# Altium footprint library lianchen_lib.PcbLib: 233 footprints (part 13 of 15)
Each footprint in its own frame and in the unit in brackets; x right, y up, seen from the top. Pads: shape width x height; smd on the part's side, far side on the other; paste and mask are expansions set on the pad; w line width, h text height; cw(c..) or ccw(c..) is an arc to the next point about the centre after c.
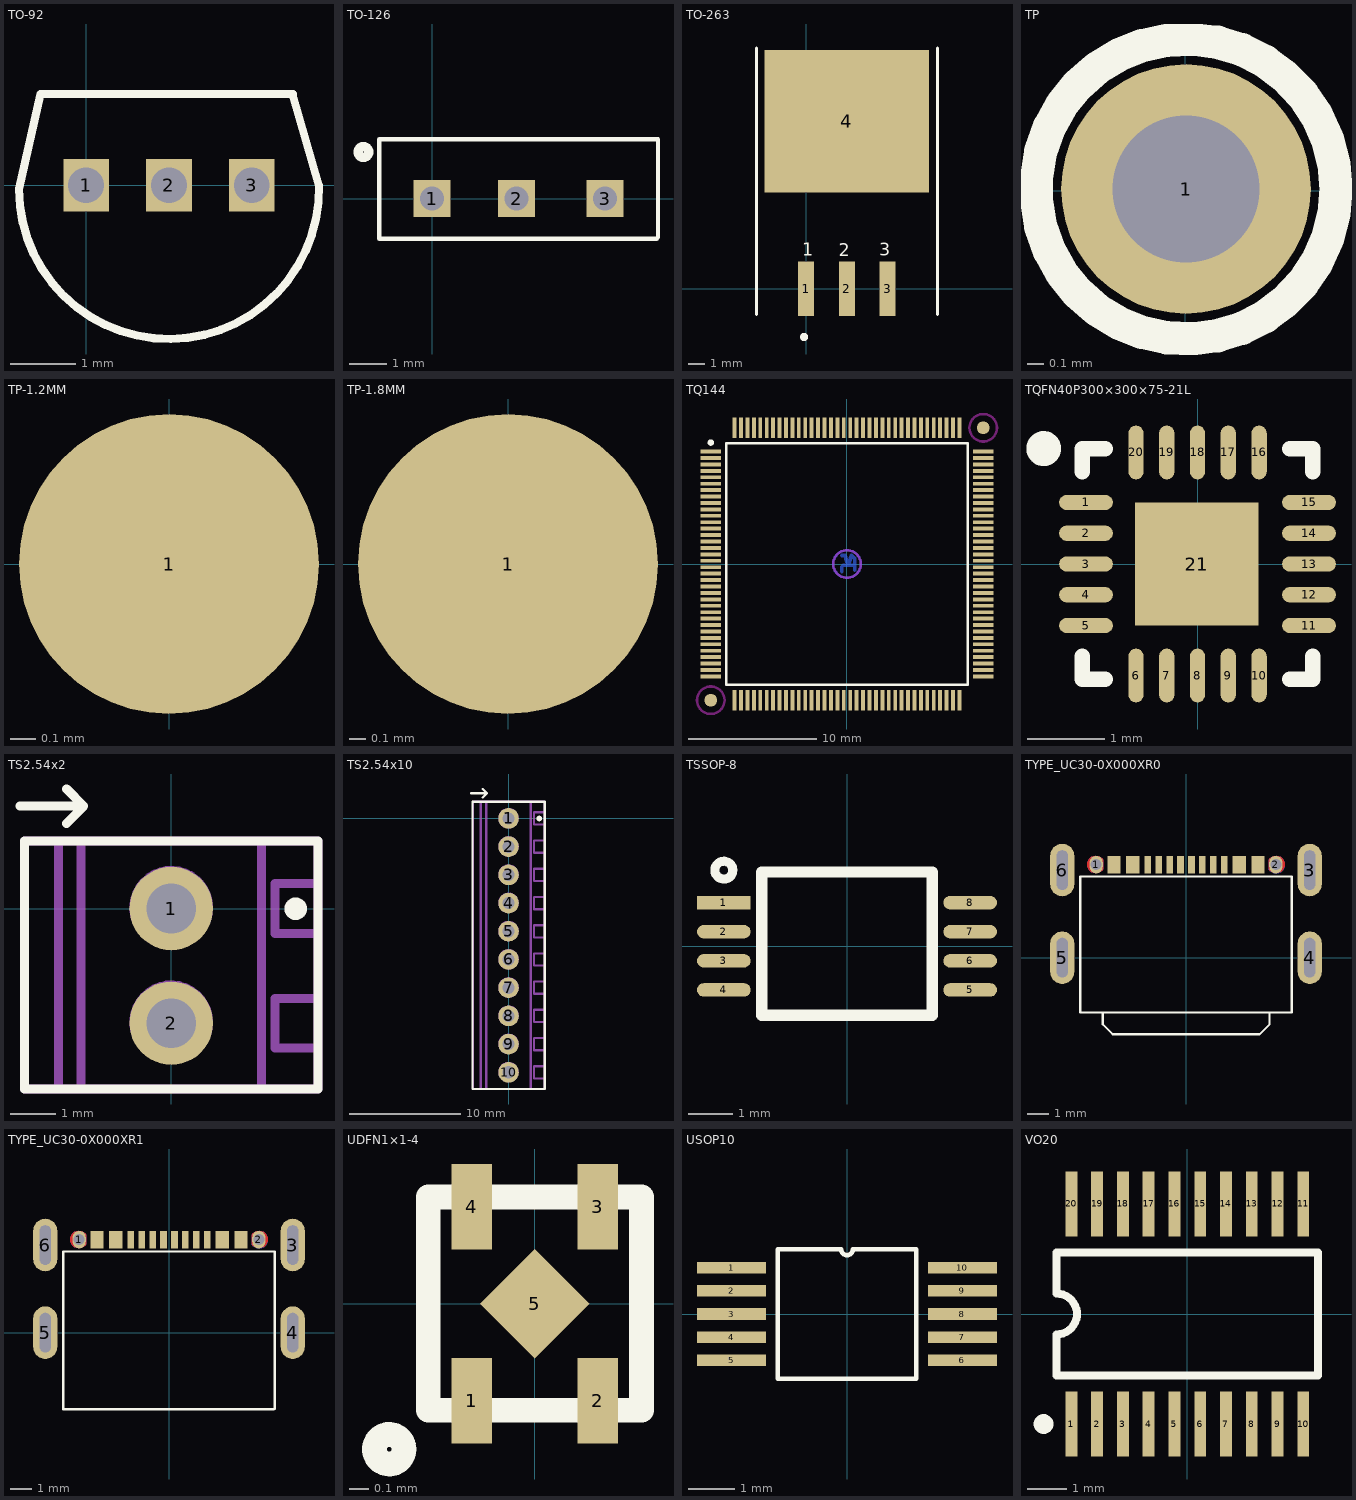
[diagram p12: the footprints below, top view; thin cyan lines are the x and y axes]

## TO-92 [mm]
pads (3):
  rect 0.7x0.8 hole 0.55 unplated: 1(0,0) 2(1.27,0) 3(2.54,0)
Top Overlay:
  lines w0.12: -1.029,-0.057 -0.7,1.4 3.17,1.4 ; 3.17,1.38 3.57,0
  lines w0.127: -1.029,-0.057 ccw(c1.271,-0.057) 3.57,0

## TO-126 [mm]
pads (3):
  rect 1x1 hole 0.65 unplated: 1(0,0) 2(2.29,0) 3(4.68,0)
Top Overlay:
  circle w0.25: c-1.856,1.26 r0.146
  lines w0.12: 6.08,-1.08 -1.43,-1.08 -1.43,1.6 6.11,1.6 6.11,-1.05

## TO-263 [mm]
pads (4):
  rect 1x3.4 smd: 1(0,0) 2(2.54,0) 3(5.08,0)
  rect 10.25x8.9 smd: 4(2.54,10.45)
Top Overlay:
  circle w0.25: c-0.125,-3 r0.125
  lines w0.2: -3.1,-1.6 -3.1,15 ; 8.2,-1.6 8.2,15
  text "2" at 2.032,2.032 h0.8
  text "3" at 4.572,2.075 h0.8
  text "1" at -0.25,2.075 h0.8

## TP [mil]
pads (1):
  round 60 hole 35.43: 1(0.14,0.45)
Top Overlay:
  circle w8: c0.14,0.45 r36.06
3D body: height 0, standoff 0, extent -35.89,-35.59 36.18,36.48

## TP-1.2MM [mm]
pads (1):
  round 1.2 smd: 1(0,0)

## TP-1.8MM [mm]
pads (1):
  round 1.8 smd: 1(0,0)

## TQ144 [mm]
pads (146):
  rect 1.6x0.3 smd: 1(-10.6,8.75) 2(-10.6,8.25) 3(-10.6,7.75) 4(-10.6,7.25) 5(-10.6,6.75) 6(-10.6,6.25) 7(-10.6,5.75) 8(-10.6,5.25) 9(-10.6,4.75) 10(-10.6,4.25) 11(-10.6,3.75) 12(-10.6,3.25) 13(-10.6,2.75) 14(-10.6,2.25) 15(-10.6,1.75) 16(-10.6,1.25) 17(-10.6,0.75) 18(-10.6,0.25) 19(-10.6,-0.25) 20(-10.6,-0.75) 21(-10.6,-1.25) 22(-10.6,-1.75) 23(-10.6,-2.25) 24(-10.6,-2.75) 25(-10.6,-3.25) 26(-10.6,-3.75) 27(-10.6,-4.25) 28(-10.6,-4.75) 29(-10.6,-5.25) 30(-10.6,-5.75) 31(-10.6,-6.25) 32(-10.6,-6.75) 33(-10.6,-7.25) 34(-10.6,-7.75) 35(-10.6,-8.25) 36(-10.6,-8.75) 73(10.6,-8.75) 74(10.6,-8.25) 75(10.6,-7.75) 76(10.6,-7.25) 77(10.6,-6.75) 78(10.6,-6.25) 79(10.6,-5.75) 80(10.6,-5.25) 81(10.6,-4.75) 82(10.6,-4.25) 83(10.6,-3.75) 84(10.6,-3.25) 85(10.6,-2.75) 86(10.6,-2.25) 87(10.6,-1.75) 88(10.6,-1.25) 89(10.6,-0.75) 90(10.6,-0.25) 91(10.6,0.25) 92(10.6,0.75) 93(10.6,1.25) 94(10.6,1.75) 95(10.6,2.25) 96(10.6,2.75) 97(10.6,3.25) 98(10.6,3.75) 99(10.6,4.25) 100(10.6,4.75) 101(10.6,5.25) 102(10.6,5.75) 103(10.6,6.25) 104(10.6,6.75) 105(10.6,7.25) 106(10.6,7.75) 107(10.6,8.25) 108(10.6,8.75)
  rect 0.3x1.6 smd: 37(-8.75,-10.6) 38(-8.25,-10.6) 39(-7.75,-10.6) 40(-7.25,-10.6) 41(-6.75,-10.6) 42(-6.25,-10.6) 43(-5.75,-10.6) 44(-5.25,-10.6) 45(-4.75,-10.6) 46(-4.25,-10.6) 47(-3.75,-10.6) 48(-3.25,-10.6) 49(-2.75,-10.6) 50(-2.25,-10.6) 51(-1.75,-10.6) 52(-1.25,-10.6) 53(-0.75,-10.6) 54(-0.25,-10.6) 55(0.25,-10.6) 56(0.75,-10.6) 57(1.25,-10.6) 58(1.75,-10.6) 59(2.25,-10.6) 60(2.75,-10.6) 61(3.25,-10.6) 62(3.75,-10.6) 63(4.25,-10.6) 64(4.75,-10.6) 65(5.25,-10.6) 66(5.75,-10.6) 67(6.25,-10.6) 68(6.75,-10.6) 69(7.25,-10.6) 70(7.75,-10.6) 71(8.25,-10.6) 72(8.75,-10.6) 109(8.75,10.6) 110(8.25,10.6) 111(7.75,10.6) 112(7.25,10.6) 113(6.75,10.6) 114(6.25,10.6) 115(5.75,10.6) 116(5.25,10.6) 117(4.75,10.6) 118(4.25,10.6) 119(3.75,10.6) 120(3.25,10.6) 121(2.75,10.6) 122(2.25,10.6) 123(1.75,10.6) 124(1.25,10.6) 125(0.75,10.6) 126(0.25,10.6) 127(-0.25,10.6) 128(-0.75,10.6) 129(-1.25,10.6) 130(-1.75,10.6) 131(-2.25,10.6) 132(-2.75,10.6) 133(-3.25,10.6) 134(-3.75,10.6) 135(-4.25,10.6) 136(-4.75,10.6) 137(-5.25,10.6) 138(-5.75,10.6) 139(-6.25,10.6) 140(-6.75,10.6) 141(-7.25,10.6) 142(-7.75,10.6) 143(-8.25,10.6) 144(-8.75,10.6)
  round 1 smd: FID1(-10.6,-10.6) FID2(10.6,10.6)
Top Layer keep-out:
  circle w0.2: c10.6,10.6 r1.072
  circle w0.2: c-10.6,-10.6 r1.072
Bottom Layer:
  lines w0.3: -0.408,-0.608 -0.408,-0.227 -0.281,-0.1 0.608,-0.1 ; -0.408,0.662 -0.154,0.662 0.075,-0.1 0.354,0.662 0.608,0.408 0.608,-0.481
Bottom Layer keep-out:
  circle w0.2: c0,0 r1.072
Top Overlay:
  circle w0.25: c-10.6,9.45 r0.125
  lines w0.2: -9.4,-9.4 9.4,-9.4 9.4,9.4 -9.4,9.4 -9.4,-9.4

## TQFN40P300×300×75-21L [mm]
height 0.75
pads (21):
  oval 0.7x0.2 smd: 1(-1.45,0.8) 2(-1.45,0.4) 3(-1.45,0) 4(-1.45,-0.4) 5(-1.45,-0.8) 11(1.45,-0.8) 12(1.45,-0.4) 13(1.45,0) 14(1.45,0.4) 15(1.45,0.8)
  oval 0.2x0.7 smd: 6(-0.8,-1.45) 7(-0.4,-1.45) 8(0,-1.45) 9(0.4,-1.45) 10(0.8,-1.45) 16(0.8,1.45) 17(0.4,1.45) 18(0,1.45) 19(-0.4,1.45) 20(-0.8,1.45)
  rect 1.6x1.6 smd: 21(-0.01,0)
Top Overlay:
  circle w0.254: c-2,1.5 r0.1
  lines w0.2: -1.5,-1.2 -1.5,-1.5 -1.2,-1.5 ; -1.5,1.2 -1.5,1.5 -1.2,1.5 ; 1.2,-1.5 1.5,-1.5 1.5,-1.2 ; 1.2,1.5 1.5,1.5 1.5,1.2

## TS2.54x2 [mm]
pads (2):
  round 1.85 hole 1.1: 1(0,0) 2(0,-2.54)
Top Overlay:
  circle w0.25: c2.76,-0.005 r0.125
  lines w0.2: -3.35,2.27 -1.94,2.27 ; -2.32,1.89 -1.94,2.27 ; -2.32,2.65 -1.94,2.27 ; -3.25,-4 -3.25,1.5 3.25,1.5 3.25,-4 -3.25,-4
Mechanical 15:
  circle w0.254: c0,-2.52 r0.8
  circle w0.254: c0,0.02 r0.8
  lines w0.2: -2.5,1.5 -2.5,-4 ; -2,-4 -2,1.5 ; -0.7,-2.1 0.4,-3.2 ; -0.7,0.4 0.3,-0.6 ; -0.2,-1.84 0.7,-2.74 ; -0.2,0.7 0.7,-0.2 ; 2,-4 2,1.5 ; 3.2,-3.09 2.3,-3.09 2.3,-1.99 3.2,-1.99 ; 3.2,-0.55 2.3,-0.55 2.3,0.55 3.2,0.55 ; -3.25,1.5 3.25,1.5 ; -3.25,1.5 -3.25,-4 -2.5,-4 ; -3.25,1.5 3.25,1.5 ; -2.5,-4 3.25,-4 3.25,1.5

## TS2.54x10 [mm]
pads (10):
  round 1.85 hole 1.1: 1(0,0) 2(0,-2.54) 3(0,-5.08) 4(0,-7.62) 5(0,-10.16) 6(0,-12.7) 7(0,-15.24) 8(0,-17.78) 9(0,-20.32) 10(0,-22.86)
Top Overlay:
  circle w0.25: c2.76,-0.005 r0.125
  lines w0.2: -3.35,2.27 -1.94,2.27 ; -2.32,1.89 -1.94,2.27 ; -2.32,2.65 -1.94,2.27 ; -3.25,-24.36 -3.25,1.5 3.25,1.5 3.25,-24.36 -3.25,-24.36
Mechanical 15:
  circle w0.254: c0,-22.84 r0.8
  circle w0.254: c0,-20.3 r0.8
  circle w0.254: c0,-17.76 r0.8
  circle w0.254: c0,-15.22 r0.8
  circle w0.254: c0,-12.68 r0.8
  circle w0.254: c0,-10.14 r0.8
  circle w0.254: c0,-7.6 r0.8
  circle w0.254: c0,-5.06 r0.8
  circle w0.254: c0,-2.52 r0.8
  circle w0.254: c0,0.02 r0.8
  lines w0.2: -2.5,1.44 -2.5,-24.36 ; -2,-24.3 -2,1.5 ; -0.7,-2.1 0.4,-3.2 ; -0.7,0.4 0.3,-0.6 ; -0.62,-22.43 0.4,-23.44 ; -0.62,-19.93 0.37,-20.92 ; -0.62,-17.39 0.37,-18.38 ; -0.62,-14.84 0.38,-15.84 ; -0.62,-12.32 0.33,-13.27 ; -0.6,-7.2 0.4,-8.2 ; -0.6,-4.7 0.3,-5.6 ; -0.59,-9.79 0.39,-10.77 ; -0.2,-22.16 0.7,-23.06 ; -0.2,-19.62 0.7,-20.52 ; -0.2,-17.08 0.7,-17.98 ; -0.2,-14.54 0.7,-15.44 ; -0.2,-12 0.7,-12.9 ; -0.2,-9.46 0.7,-10.36 ; -0.2,-6.92 0.7,-7.82 ; -0.2,-4.38 0.7,-5.28 ; -0.2,-1.84 0.7,-2.74 ; -0.2,0.7 0.7,-0.2 ; 2,-24.36 2,1.51 ; 3.2,-23.41 2.3,-23.41 2.3,-22.31 3.2,-22.31 ; 3.2,-20.87 2.3,-20.87 2.3,-19.77 3.2,-19.77 ; 3.2,-18.33 2.3,-18.33 2.3,-17.23 3.2,-17.23 ; 3.2,-15.79 2.3,-15.79 2.3,-14.69 3.2,-14.69 ; 3.2,-13.25 2.3,-13.25 2.3,-12.15 3.2,-12.15 ; 3.2,-5.63 2.3,-5.63 2.3,-4.53 3.2,-4.53 ; 3.2,-3.09 2.3,-3.09 2.3,-1.99 3.2,-1.99 ; 3.2,-0.55 2.3,-0.55 2.3,0.55 3.2,0.55 ; -3.2,1.51 3.24,1.51 ; -3.2,1.51 -3.19,-24.35 -2.5,-24.36 ; -3.2,1.51 3.24,1.51 ; -2.5,-24.36 3.24,-24.35 3.24,1.51 ; 2.3,-10.71 3.2,-10.71 2.3,-10.71 ; 2.3,-10.71 2.3,-9.61 ; 2.3,-10.71 2.3,-9.61 ; 2.3,-9.61 3.2,-9.61 2.3,-9.61 ; 2.3,-8.17 3.2,-8.17 2.3,-8.17 ; 2.3,-8.17 2.3,-7.07 ; 2.3,-8.17 2.3,-7.07 ; 2.3,-7.07 3.2,-7.07 2.3,-7.07

## TSSOP-8 [mm]
height 1.2
pads (8):
  rect 1.2x0.3 smd: 1(-2.75,0.975)
  oval 1.2x0.3 smd: 2(-2.75,0.325) 3(-2.75,-0.325) 4(-2.75,-0.975) 5(2.75,-0.975) 6(2.75,-0.325) 7(2.75,0.325) 8(2.75,0.975)
Top Overlay:
  circle w0.2: c-2.75,1.7 r0.2
  lines w0.254: -1.9,1.66 -1.9,-1.54 1.9,-1.54 1.9,1.66 ; -1.88,1.66 1.85,1.66

## TYPE_UC30-0X000XR0 [mm]
height 1.63
pads (22):
  oval 0.6x0.8 hole 0.5: 1(-4.1,4.25) 2(4.1,4.25)
  oval 1.1x2.4 hole 0.5 slot 1.8 at 90 deg: 3(5.65,4) 4(5.65,0) 5(-5.65,0) 6(-5.65,4)
  rect 0.3x0.8 smd: A1(-3.43,4.25) A4(-2.28,4.25) A5(-1.75,4.25) A6(-0.75,4.25) A7(0.75,4.25) A8(1.75,4.25) A9(2.28,4.25) A12(3.43,4.25) B1(3.13,4.25) B4(2.58,4.25) B5(1.25,4.25) B6(0.25,4.25) B7(-0.25,4.25) B8(-1.25,4.25) B9(-2.58,4.25) B12(-3.13,4.25)
Top Layer:
  region: -3.786,4.474 -3.834,4.546 -3.98,4.638 -4.152,4.661 -4.317,4.612 -4.448,4.498 -4.52,4.341 -4.52,4.168 -4.449,4.01 -4.319,3.896 -4.153,3.845 -3.982,3.868 -3.835,3.959 -3.787,4.031
  region: 3.786,4.03 3.834,3.958 3.981,3.866 4.152,3.843 4.318,3.892 4.448,4.006 4.52,4.164 4.52,4.336 4.449,4.494 4.319,4.608 4.154,4.659 3.982,4.636 3.835,4.545 3.787,4.473
Bottom Layer:
  region: 3.786,4.024 3.834,3.952 3.98,3.86 4.152,3.836 4.317,3.886 4.448,4 4.52,4.157 4.52,4.33 4.449,4.488 4.319,4.602 4.153,4.652 3.982,4.63 3.835,4.538 3.787,4.466
  region: -3.786,4.474 -3.834,4.546 -3.98,4.638 -4.152,4.661 -4.317,4.612 -4.448,4.498 -4.52,4.341 -4.52,4.168 -4.449,4.01 -4.319,3.896 -4.153,3.845 -3.982,3.868 -3.835,3.959 -3.787,4.031
Top Overlay:
  lines w0.1: -4.825,3.7 -4.825,-2.5 4.825,-2.5 4.825,3.7 ; -4.8,3.7 4.8,3.7 ; -3.802,-2.526 -3.802,-3.044 -3.347,-3.499 ; -3.338,-3.499 3.363,-3.499 3.818,-3.044 3.818,-2.526
Top Paste:
  region: 3.792,4.033 3.839,3.96 3.986,3.868 4.157,3.845 4.323,3.895 4.453,4.008 4.525,4.166 4.525,4.339 4.454,4.497 4.324,4.611 4.159,4.661 3.987,4.638 3.84,4.547 3.792,4.475
  region: -3.788,4.476 -3.836,4.548 -3.982,4.64 -4.154,4.663 -4.32,4.614 -4.45,4.5 -4.522,4.343 -4.522,4.17 -4.451,4.012 -4.321,3.898 -4.155,3.847 -3.984,3.87 -3.837,3.961 -3.789,4.033
Bottom Paste:
  region: 3.786,4.034 3.834,3.962 3.98,3.87 4.152,3.846 4.317,3.896 4.448,4.01 4.52,4.167 4.52,4.34 4.449,4.498 4.319,4.612 4.153,4.662 3.982,4.64 3.835,4.548 3.787,4.476
  region: -3.787,4.474 -3.835,4.546 -3.982,4.638 -4.153,4.661 -4.319,4.612 -4.449,4.498 -4.521,4.341 -4.521,4.168 -4.45,4.01 -4.32,3.896 -4.155,3.846 -3.983,3.868 -3.836,3.96 -3.788,4.032
Top Solder:
  region: 3.786,4.04 3.834,3.968 3.981,3.876 4.152,3.853 4.318,3.902 4.448,4.016 4.52,4.174 4.52,4.346 4.449,4.504 4.319,4.618 4.154,4.669 3.982,4.646 3.835,4.555 3.787,4.483
  region: -3.789,4.467 -3.836,4.539 -3.983,4.631 -4.154,4.655 -4.32,4.605 -4.45,4.491 -4.522,4.334 -4.522,4.161 -4.451,4.003 -4.321,3.889 -4.156,3.839 -3.984,3.861 -3.837,3.953 -3.789,4.025
Bottom Solder:
  region: 3.787,4.016 3.835,3.944 3.982,3.852 4.153,3.829 4.319,3.878 4.449,3.992 4.521,4.149 4.521,4.322 4.45,4.48 4.32,4.594 4.155,4.644 3.983,4.622 3.836,4.53 3.788,4.458
  region: -3.79,4.473 -3.838,4.545 -3.984,4.637 -4.156,4.661 -4.321,4.611 -4.452,4.497 -4.524,4.34 -4.524,4.167 -4.453,4.009 -4.323,3.895 -4.157,3.845 -3.986,3.867 -3.839,3.959 -3.791,4.031
Multi-Layer:
  region: 3.788,4.024 3.836,3.952 3.982,3.86 4.154,3.837 4.32,3.886 4.45,4 4.522,4.157 4.522,4.33 4.451,4.488 4.321,4.602 4.155,4.653 3.984,4.63 3.837,4.539 3.789,4.467
  region: -3.782,4.471 -3.83,4.543 -3.976,4.635 -4.148,4.658 -4.314,4.609 -4.444,4.495 -4.516,4.338 -4.516,4.165 -4.445,4.007 -4.315,3.893 -4.15,3.843 -3.978,3.865 -3.831,3.957 -3.783,4.029

## TYPE_UC30-0X000XR1 [mm]
height 1.63
pads (22):
  oval 0.6x0.8 hole 0.5: 1(-4.1,4.25) 2(4.1,4.25)
  oval 1.1x2.4 hole 0.5 slot 1.8 at 90 deg: 3(5.65,4) 4(5.65,0) 5(-5.65,0) 6(-5.65,4)
  rect 0.3x0.8 smd: A1(-3.43,4.25) A4(-2.28,4.25) A5(-1.75,4.25) A6(-0.75,4.25) A7(0.75,4.25) A8(1.75,4.25) A9(2.28,4.25) A12(3.43,4.25) B1(3.13,4.25) B4(2.58,4.25) B5(1.25,4.25) B6(0.25,4.25) B7(-0.25,4.25) B8(-1.25,4.25) B9(-2.58,4.25) B12(-3.13,4.25)
Top Layer:
  region: -3.786,4.474 -3.834,4.546 -3.98,4.638 -4.152,4.661 -4.317,4.612 -4.448,4.498 -4.52,4.341 -4.52,4.168 -4.449,4.01 -4.319,3.896 -4.153,3.845 -3.982,3.868 -3.835,3.959 -3.787,4.031
  region: 3.786,4.03 3.834,3.958 3.981,3.866 4.152,3.843 4.318,3.892 4.448,4.006 4.52,4.164 4.52,4.336 4.449,4.494 4.319,4.608 4.154,4.659 3.982,4.636 3.835,4.545 3.787,4.473
Bottom Layer:
  region: 3.786,4.024 3.834,3.952 3.98,3.86 4.152,3.836 4.317,3.886 4.448,4 4.52,4.157 4.52,4.33 4.449,4.488 4.319,4.602 4.153,4.652 3.982,4.63 3.835,4.538 3.787,4.466
  region: -3.786,4.474 -3.834,4.546 -3.98,4.638 -4.152,4.661 -4.317,4.612 -4.448,4.498 -4.52,4.341 -4.52,4.168 -4.449,4.01 -4.319,3.896 -4.153,3.845 -3.982,3.868 -3.835,3.959 -3.787,4.031
Top Overlay:
  lines w0.1: -4.825,3.7 -4.825,-3.5 4.775,-3.5 ; -4.8,3.7 4.8,3.7 ; 4.8,-3.5 4.825,-3.475 4.825,3.7
Top Paste:
  region: 3.792,4.033 3.839,3.96 3.986,3.868 4.157,3.845 4.323,3.895 4.453,4.008 4.525,4.166 4.525,4.339 4.454,4.497 4.324,4.611 4.159,4.661 3.987,4.638 3.84,4.547 3.792,4.475
  region: -3.788,4.476 -3.836,4.548 -3.982,4.64 -4.154,4.663 -4.32,4.614 -4.45,4.5 -4.522,4.343 -4.522,4.17 -4.451,4.012 -4.321,3.898 -4.155,3.847 -3.984,3.87 -3.837,3.961 -3.789,4.033
Bottom Paste:
  region: 3.786,4.034 3.834,3.962 3.98,3.87 4.152,3.846 4.317,3.896 4.448,4.01 4.52,4.167 4.52,4.34 4.449,4.498 4.319,4.612 4.153,4.662 3.982,4.64 3.835,4.548 3.787,4.476
  region: -3.787,4.474 -3.835,4.546 -3.982,4.638 -4.153,4.661 -4.319,4.612 -4.449,4.498 -4.521,4.341 -4.521,4.168 -4.45,4.01 -4.32,3.896 -4.155,3.846 -3.983,3.868 -3.836,3.96 -3.788,4.032
Top Solder:
  region: 3.786,4.04 3.834,3.968 3.981,3.876 4.152,3.853 4.318,3.902 4.448,4.016 4.52,4.174 4.52,4.346 4.449,4.504 4.319,4.618 4.154,4.669 3.982,4.646 3.835,4.555 3.787,4.483
  region: -3.789,4.467 -3.836,4.539 -3.983,4.631 -4.154,4.655 -4.32,4.605 -4.45,4.491 -4.522,4.334 -4.522,4.161 -4.451,4.003 -4.321,3.889 -4.156,3.839 -3.984,3.861 -3.837,3.953 -3.789,4.025
Bottom Solder:
  region: 3.787,4.016 3.835,3.944 3.982,3.852 4.153,3.829 4.319,3.878 4.449,3.992 4.521,4.149 4.521,4.322 4.45,4.48 4.32,4.594 4.155,4.644 3.983,4.622 3.836,4.53 3.788,4.458
  region: -3.79,4.473 -3.838,4.545 -3.984,4.637 -4.156,4.661 -4.321,4.611 -4.452,4.497 -4.524,4.34 -4.524,4.167 -4.453,4.009 -4.323,3.895 -4.157,3.845 -3.986,3.867 -3.839,3.959 -3.791,4.031
Multi-Layer:
  region: 3.788,4.024 3.836,3.952 3.982,3.86 4.154,3.837 4.32,3.886 4.45,4 4.522,4.157 4.522,4.33 4.451,4.488 4.321,4.602 4.155,4.653 3.984,4.63 3.837,4.539 3.789,4.467
  region: -3.782,4.471 -3.83,4.543 -3.976,4.635 -4.148,4.658 -4.314,4.609 -4.444,4.495 -4.516,4.338 -4.516,4.165 -4.445,4.007 -4.315,3.893 -4.15,3.843 -3.978,3.865 -3.831,3.957 -3.783,4.029

## UDFN1×1-4 [mm]
height 0.4
pads (5):
  rect 0.21x0.44 smd: 1(-0.325,-0.5) 2(0.325,-0.5) 3(0.325,0.5) 4(-0.325,0.5)
  rect 0.4x0.4 smd rot 45: 5(0,0)
Top Overlay:
  circle w0.127: c-0.75,-0.75 r0.076
  lines w0.127: -0.55,-0.55 0.55,-0.55 0.55,0.55 -0.55,0.55 -0.55,-0.55

## USOP10 [mm]
pads (10):
  rect 1.5x0.25 smd: 1(-2.5,1) 2(-2.5,0.5) 3(-2.5,0) 4(-2.5,-0.5) 5(-2.5,-1) 6(2.5,-1) 7(2.5,-0.5) 8(2.5,0) 9(2.5,0.5) 10(2.5,1)
Top Overlay:
  lines w0.1: -0.15,1.4 -1.5,1.4 -1.5,-1.4 1.5,-1.4 1.5,1.4 0.15,1.4 ; -0.125,1.4 ccw(c0,1.4) 0.125,1.4

## VO20 [mm]
pads (20):
  rect 0.3x1.65 smd: 1(-2.925,-2.775) 2(-2.275,-2.775) 3(-1.625,-2.775) 4(-0.975,-2.775) 5(-0.325,-2.775) 6(0.325,-2.775) 7(0.975,-2.775) 8(1.625,-2.775) 9(2.275,-2.775) 10(2.925,-2.775) 11(2.925,2.775) 12(2.275,2.775) 13(1.625,2.775) 14(0.975,2.775) 15(0.325,2.775) 16(-0.325,2.775) 17(-0.975,2.775) 18(-1.625,2.775) 19(-2.275,2.775) 20(-2.925,2.775)
Top Overlay:
  circle w0.25: c-3.625,-2.775 r0.125
  lines w0.2: -3.3,-1.55 3.3,-1.55 3.3,1.55 -3.3,1.55 -3.3,0.517 cw(c-3.3,0) -3.3,-0.517 -3.3,-1.55